# EAGLE library part AC4490 (library Traficon)
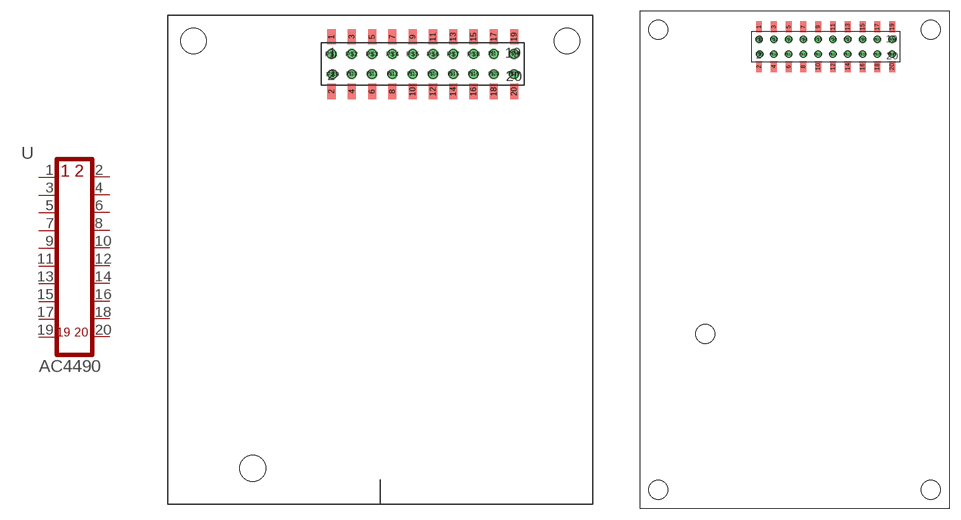
[diagram p11: symbol with the pads of AC4490.PAC; footprints AC4490.PAC, AC4424.PAC]

Designator prefix -

## AC4490  [AC4490.PAC]
1  1  pas
2  2  pas
3  3  pas
4  4  pas
5  5  pas
6  6  pas
7  7  pas
8  8  pas
9  9  pas
10  10  pas
11  11  pas
12  12  pas
13  13  pas
14  14  pas
15  15  pas
16  16  pas
17  17  pas
18  18  pas
19  19  pas
20  20  pas

## AC4490AC4424  [AC4424.PAC]
Pads as for AC4490.PAC

## Footprint AC4490.PAC (pad centres in mm)
smd 0.8 x 1.5: 1 -9,2.7; 2 -9,-2.7; 3 -7,2.7; 4 -7,-2.7; 5 -5,2.7; 6 -5,-2.7; 7 -3,2.7; 8 -3,-2.7; 9 -1,2.7; 10 -1,-2.7; 11 1,2.7; 12 1,-2.7; 13 3,2.7; 14 3,-2.7; 15 5,2.7; 16 5,-2.7; 17 7,2.7; 18 7,-2.7; 19 9,2.7; 20 9,-2.7
drill 0.406 pad 1.016 round: P$1 -9,1; P$2 -7,1; P$3 -5,1; P$4 -3,1; P$5 -1,1; P$6 1,1; P$7 3,1; P$8 5,1; P$9 -8.9,-1; P$10 -7,-1; P$11 -5,-1; P$12 -3,-1; P$13 -1,-1; P$14 1,-1; P$15 3,-1; P$16 5,-1; P$17 7,1; P$18 9,1; P$19 9,-1; P$20 7,-1
hole 0.813 at -9,1
hole 0.813 at -7,1
hole 0.813 at -5,1
hole 0.813 at -3,1
hole 0.813 at -1,1
hole 0.813 at -1,-1
hole 0.813 at -3,-1
hole 0.813 at -5,-1
hole 0.813 at -7,-1
hole 0.813 at -8.9,-1
hole 0.813 at 1,1
hole 0.813 at 3,1
hole 0.813 at 5,1
hole 0.813 at 7,1
hole 0.813 at 9,1
hole 0.813 at 9,-1
hole 0.813 at 7,-1
hole 0.813 at 5,-1
hole 0.813 at 3,-1
hole 0.813 at 1,-1
hole 2.54 at 14.224,2.286
hole 2.54 at -22.606,2.286
hole 2.54 at -16.764,-39.878

## Footprint AC4424.PAC (pad centres in mm)
smd 0.8 x 1.5: 1 -9,2.7; 2 -9,-2.7; 3 -7,2.7; 4 -7,-2.7; 5 -5,2.7; 6 -5,-2.7; 7 -3,2.7; 8 -3,-2.7; 9 -1,2.7; 10 -1,-2.7; 11 1,2.7; 12 1,-2.7; 13 3,2.7; 14 3,-2.7; 15 5,2.7; 16 5,-2.7; 17 7,2.7; 18 7,-2.7; 19 9,2.7; 20 9,-2.7
drill 0.406 pad 1.016 round: P$1 -9,1; P$2 -7,1; P$3 -5,1; P$4 -3,1; P$5 -1,1; P$6 1,1; P$7 3,1; P$8 5,1; P$9 -8.9,-1; P$10 -7,-1; P$11 -5,-1; P$12 -3,-1; P$13 -1,-1; P$14 1,-1; P$15 3,-1; P$16 5,-1; P$17 7,1; P$18 9,1; P$19 9,-1; P$20 7,-1
hole 0.813 at -9,1
hole 0.813 at -7,1
hole 0.813 at -5,1
hole 0.813 at -3,1
hole 0.813 at -1,1
hole 0.813 at -1,-1
hole 0.813 at -3,-1
hole 0.813 at -5,-1
hole 0.813 at -7,-1
hole 0.813 at -8.9,-1
hole 0.813 at 1,1
hole 0.813 at 3,1
hole 0.813 at 5,1
hole 0.813 at 7,1
hole 0.813 at 9,1
hole 0.813 at 9,-1
hole 0.813 at 7,-1
hole 0.813 at 5,-1
hole 0.813 at 3,-1
hole 0.813 at 1,-1
hole 2.54 at 14.224,2.286
hole 2.54 at -22.606,2.286
hole 2.54 at -16.256,-38.862
hole 2.54 at 14.224,-59.944
hole 2.54 at -22.606,-59.944